# Altium footprint library Wurth_Elektronik_Passive_rev16a.PCBLIB: 810 footprints (part 34 of 51)
Each footprint in its own frame and in the unit in brackets; x right, y up, seen from the top. Pads: shape width x height; smd on the part's side, far side on the other; paste and mask are expansions set on the pad; w line width, h text height; cw(c..) or ccw(c..) is an arc to the next point about the centre after c.
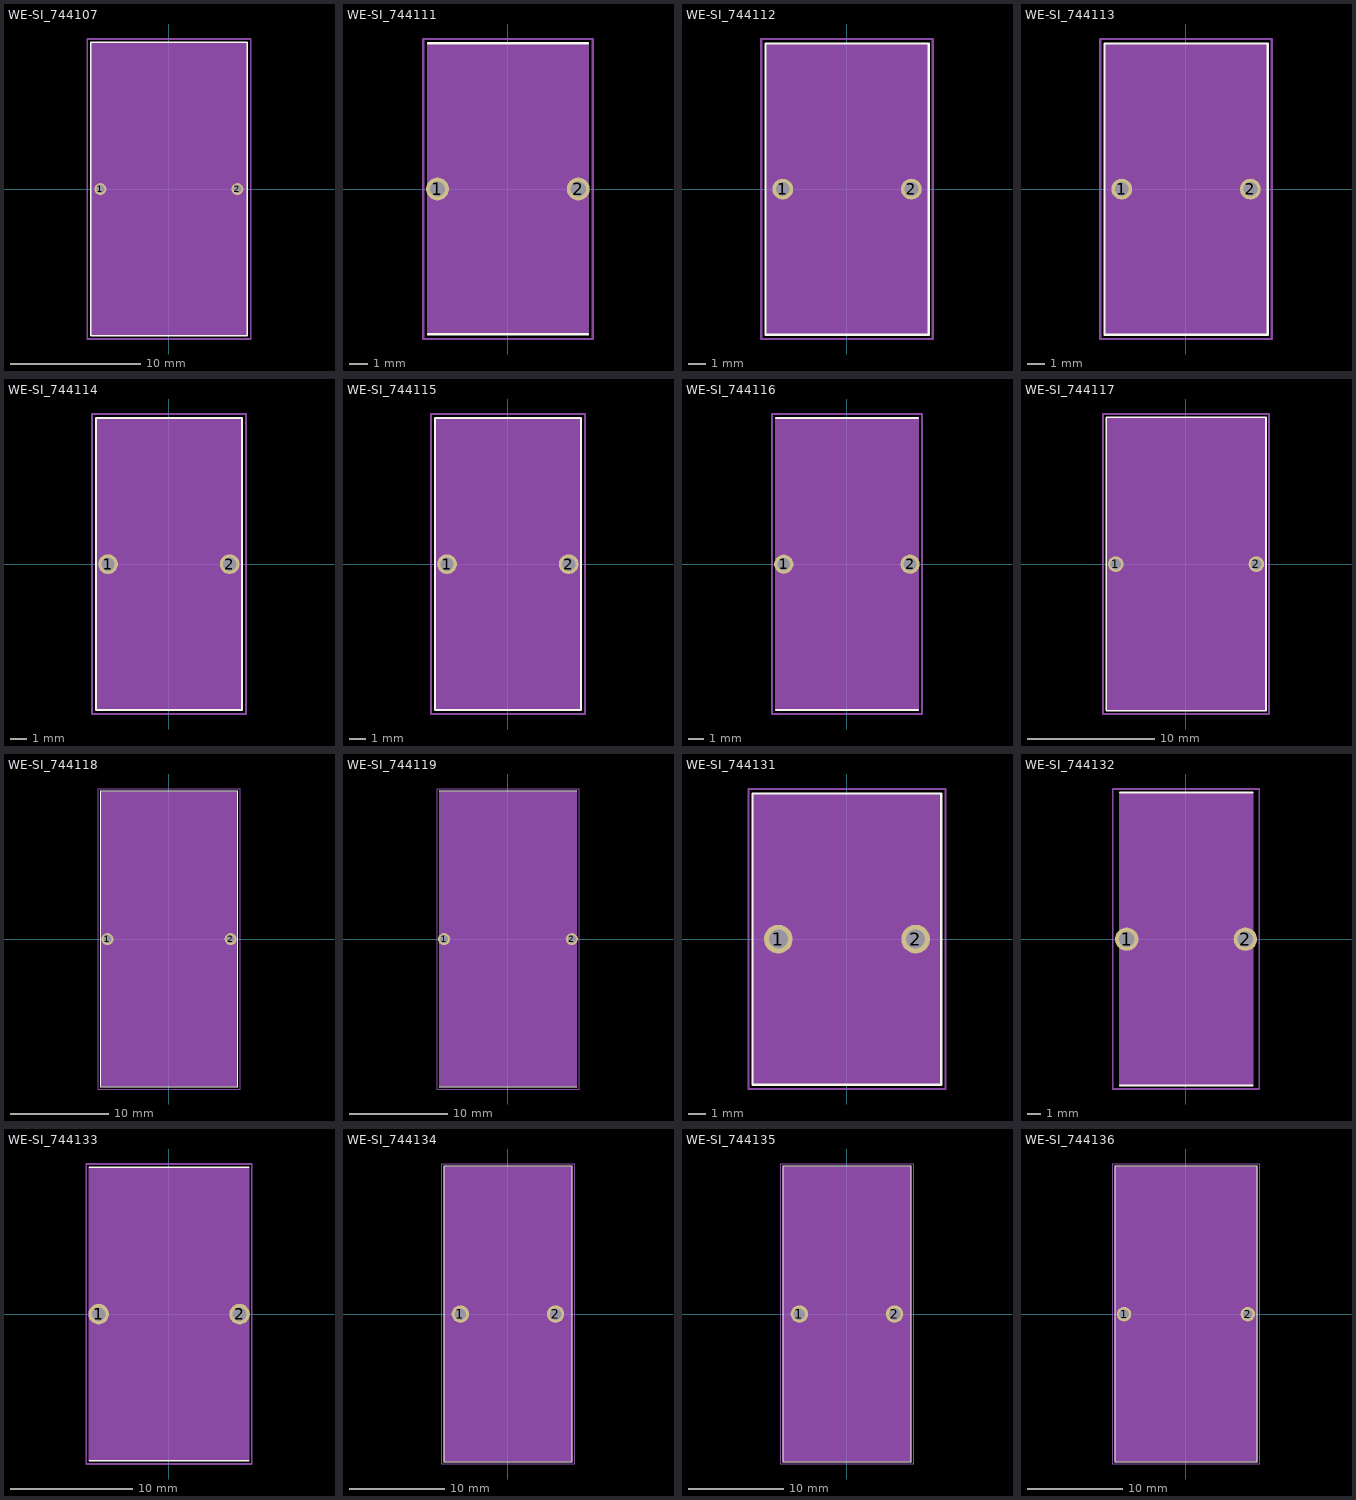
[diagram p33: the footprints below, top view; thin cyan lines are the x and y axes]

## WE-SI_744107 [mil]
pads (2):
  round 36 hole 24: 1(-206.69,0) 2(207,0)
Top Overlay:
  lines w5: -236.22,-442.91 -236.22,443 237,443 237,-442.91 -236.22,-442.91
Mechanical 2:
  text ">NAME" at -200,500 h77.5
Mechanical 4:
  text ">VALUE" at -200,-550 h77.5
Mechanical 10:
  rectangle: -236.22,-442.91 237,443
Mechanical 27:
  lines w5: -246.06,-452.76 -246.06,453 247,453 247,-452.76 -246.06,-452.76

## WE-SI_744111 [mil]
pads (2):
  round 48 hole 32: 1(-147.64,0) 2(148,0)
Top Overlay:
  lines w5: -167.32,-305.12 168,-305.12 ; -167.32,306 168,306
Mechanical 2:
  text ">NAME" at -200,350 h77.5
  text ">VALUE" at -200,-400 h77.5
Mechanical 10:
  rectangle: -167.32,-305.12 168,306
Mechanical 16:
  lines w5: -167.32,-305.12 -167.32,306 ; 168,-305.12 168,306
Mechanical 27:
  lines w5: -177.17,-314.96 -177.17,315 178,315 178,-314.96 -177.17,-314.96

## WE-SI_744112 [mil]
pads (2):
  round 48 hole 32: 1(-147.64,0) 2(148,0)
Top Overlay:
  lines w5: -187.01,-334.65 -187.01,335 188,335 188,-334.65 -187.01,-334.65
Mechanical 2:
  text ">NAME" at -200,350 h77.5
  text ">VALUE" at -200,-400 h77.5
Mechanical 10:
  rectangle: -187.01,-334.65 188,335
Mechanical 27:
  lines w5: -196.85,-344.49 -196.85,345 197,345 197,-344.49 -196.85,-344.49

## WE-SI_744113 [mil]
pads (2):
  round 48 hole 32: 1(-147.64,0) 2(148,0)
Top Overlay:
  lines w5: -187.01,-334.65 -187.01,335 188,335 188,-334.65 -187.01,-334.65
Mechanical 2:
  text ">NAME" at -200,350 h77.5
  text ">VALUE" at -200,-400 h77.5
Mechanical 10:
  rectangle: -187.01,-334.65 188,335
Mechanical 27:
  lines w5: -196.85,-344.49 -196.85,345 197,345 197,-344.49 -196.85,-344.49

## WE-SI_744114 [mil]
pads (2):
  round 48 hole 32: 1(-147.64,0) 2(148,0)
Top Overlay:
  lines w5: -177.17,-354.33 -177.17,355 178,355 178,-354.33 -177.17,-354.33
Mechanical 2:
  text ">NAME" at -200,400 h77.5
  text ">VALUE" at -200,-450 h77.5
Mechanical 10:
  rectangle: -177.17,-354.33 178,355
Mechanical 27:
  lines w5: -187.01,-364.17 -187.01,365 188,365 188,-364.17 -187.01,-364.17

## WE-SI_744115 [mil]
pads (2):
  round 48 hole 32: 1(-147.64,0) 2(148,0)
Top Overlay:
  lines w5: -177.17,-354.33 -177.17,355 178,355 178,-354.33 -177.17,-354.33
Mechanical 2:
  text ">NAME" at -200,400 h77.5
  text ">VALUE" at -200,-450 h77.5
Mechanical 10:
  rectangle: -177.17,-354.33 178,355
Mechanical 27:
  lines w5: -187.01,-364.17 -187.01,365 188,365 188,-364.17 -187.01,-364.17

## WE-SI_744116 [mil]
pads (2):
  round 48 hole 32: 1(-157.48,0) 2(158,0)
Top Overlay:
  lines w5: -177.17,-364.17 178,-364.17 ; -177.17,365 178,365
Mechanical 2:
  text ">NAME" at -200,400 h77.5
  text ">VALUE" at -200,-450 h77.5
Mechanical 10:
  rectangle: -177.17,-364.17 178,365
Mechanical 16:
  lines w5: -177.17,-364.17 -177.17,365 ; 178,-364.17 178,365
Mechanical 27:
  lines w5: -187.01,-374.02 -187.01,375 188,375 188,-374.02 -187.01,-374.02

## WE-SI_744117 [mil]
pads (2):
  round 48 hole 32: 1(-216.54,0) 2(217,0)
Top Overlay:
  lines w5: -246.06,-452.76 -246.06,453 247,453 247,-452.76 -246.06,-452.76
Mechanical 2:
  text ">NAME" at -250,500 h77.5
  text ">VALUE" at -250,-550 h77.5
Mechanical 10:
  rectangle: -246.06,-452.76 247,453
Mechanical 27:
  lines w5: -255.91,-462.6 -255.91,463 256,463 256,-462.6 -255.91,-462.6

## WE-SI_744118 [mil]
pads (2):
  round 48 hole 32: 1(-246.06,0) 2(247,0)
Top Overlay:
  lines w5: -275.59,-590.55 -275.59,591 276,591 276,-590.55 -275.59,-590.55
Mechanical 2:
  text ">NAME" at -300,650 h77.5
  text ">VALUE" at -300,-700 h77.5
Mechanical 10:
  rectangle: -275.59,-590.55 276,591
Mechanical 27:
  lines w5: -285.43,-600.39 -285.43,601 286,601 286,-600.39 -285.43,-600.39

## WE-SI_744119 [mil]
pads (2):
  round 48 hole 32: 1(-255.91,0) 2(256,0)
Top Overlay:
  lines w5: -275.59,-590.55 276,-590.55 ; -275.59,591 276,591
Mechanical 2:
  text ">NAME" at -300,650 h77.5
  text ">VALUE" at -300,-700 h77.5
Mechanical 10:
  rectangle: -275.59,-590.55 276,591
Mechanical 16:
  lines w5: -275.59,-590.55 -275.59,591 ; 276,-590.55 276,591
Mechanical 27:
  lines w5: -285.43,-600.39 -285.43,601 286,601 286,-600.39 -285.43,-600.39

## WE-SI_744131 [mil]
pads (2):
  round 66 hole 44: 1(-157.48,0) 2(158,0)
Top Overlay:
  lines w5: -216.54,-334.65 -216.54,335 217,335 217,-334.65 -216.54,-334.65
Mechanical 2:
  text ">NAME" at -250,400 h77.5
Mechanical 4:
  text ">VALUE" at -250,-450 h77.5
Mechanical 10:
  rectangle: -216.54,-334.65 217,335
Mechanical 27:
  lines w5: -226.38,-344.49 -226.38,345 227,345 227,-344.49 -226.38,-344.49

## WE-SI_744132 [mil]
pads (2):
  round 66 hole 44: 1(-167.32,0) 2(168,0)
Top Overlay:
  lines w5: -187.01,-413.39 188,-413.39 ; -187.01,414 188,414
Mechanical 2:
  text ">NAME" at -200,450 h77.5
Mechanical 4:
  text ">VALUE" at -200,-500 h77.5
Mechanical 10:
  rectangle: -187.01,-413.39 188,414
Mechanical 16:
  lines w5: -187.01,-413.39 -187.01,414 ; 188,-413.39 188,414
Mechanical 27:
  lines w5: -206.69,-423.23 -206.69,424 207,424 207,-423.23 -206.69,-423.23

## WE-SI_744133 [mil]
pads (2):
  round 66 hole 44: 1(-226.38,0) 2(227,0)
Top Overlay:
  lines w5: -255.91,-472.44 256,-472.44 ; -255.91,473 256,473
Mechanical 2:
  text ">NAME" at -250,500 h77.5
Mechanical 4:
  text ">VALUE" at -250,-550 h77.5
Mechanical 10:
  rectangle: -255.91,-472.44 256,473
Mechanical 16:
  lines w5: -255.91,-472.44 -255.91,473 ; 256,-472.44 256,473
Mechanical 27:
  lines w5: -265.75,-482.28 -265.75,483 266,483 266,-482.28 -265.75,-482.28

## WE-SI_744134 [mil]
pads (2):
  round 72 hole 48: 1(-196.85,0) 2(197,0)
Top Overlay:
  lines w5: -265.75,-610.24 -265.75,611 266,611 266,-610.24 -265.75,-610.24
Mechanical 2:
  text ">NAME" at -300,650 h77.5
Mechanical 4:
  text ">VALUE" at -300,-700 h77.5
Mechanical 10:
  rectangle: -265.75,-610.24 266,611
Mechanical 27:
  lines w5: -275.59,-620.08 -275.59,621 276,621 276,-620.08 -275.59,-620.08

## WE-SI_744135 [mil]
pads (2):
  round 72 hole 48: 1(-196.85,0) 2(197,0)
Top Overlay:
  lines w5: -265.75,-610.24 -265.75,611 266,611 266,-610.24 -265.75,-610.24
Mechanical 2:
  text ">NAME" at -300,650 h77.5
Mechanical 4:
  text ">VALUE" at -300,-700 h77.5
Mechanical 10:
  rectangle: -265.75,-610.24 266,611
Mechanical 27:
  lines w5: -275.59,-620.08 -275.59,621 276,621 276,-620.08 -275.59,-620.08

## WE-SI_744136 [mil]
pads (2):
  round 60 hole 40: 1(-255.91,0) 2(256,0)
Top Overlay:
  lines w5: -295.28,-610.24 -295.28,611 296,611 296,-610.24 -295.28,-610.24
Mechanical 2:
  text ">NAME" at -300,650 h77.5
Mechanical 4:
  text ">VALUE" at -300,-700 h77.5
Mechanical 10:
  rectangle: -295.28,-610.24 296,611
Mechanical 27:
  lines w5: -305.12,-620.08 -305.12,621 306,621 306,-620.08 -305.12,-620.08